# Altium footprint library YAGEO-AT-Series.PcbLib: 5 footprints
Each footprint in its own frame and in the unit in brackets; x right, y up, seen from the top. Pads: shape width x height; smd on the part's side, far side on the other; paste and mask are expansions set on the pad; w line width, h text height; cw(c..) or ccw(c..) is an arc to the next point about the centre after c.
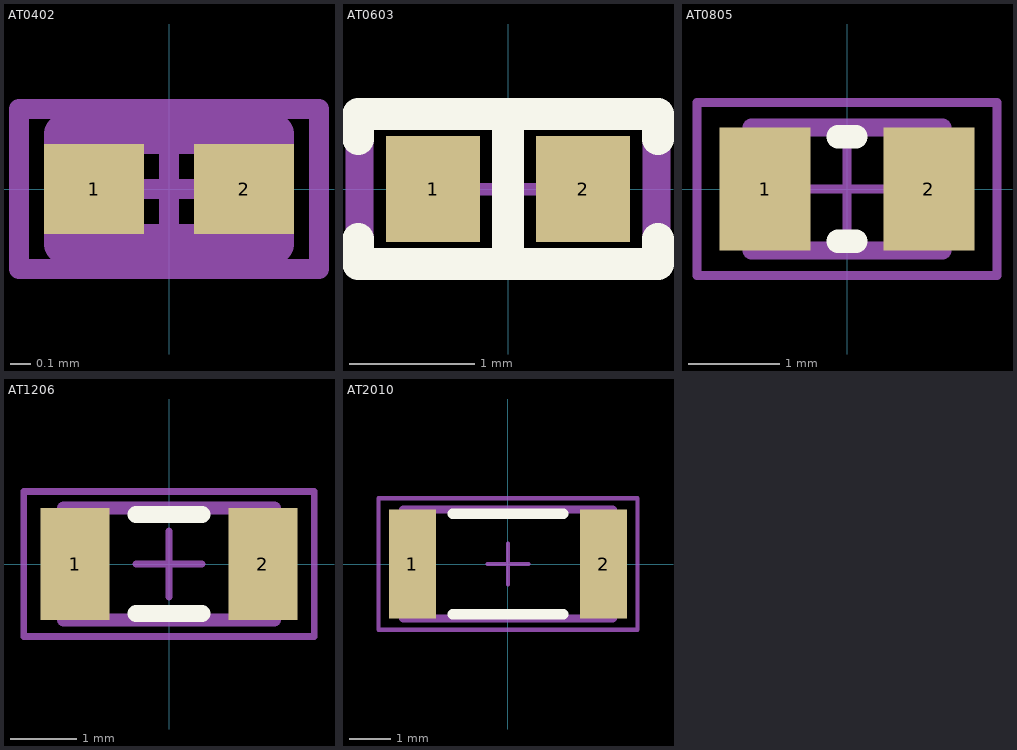
[diagram p0: the footprints below, top view; thin cyan lines are the x and y axes]

## AT0402 [mm] "Chip Resistor, 2-Leads, Body 1.00x0.50mm, IPC High Density"
height 0.4
pads (2):
  rect 0.5x0.45 smd: 1(-0.375,0) 2(0.375,0)
Top Designator:
  text ".Designator" at -0.6,0.7 h0.6
Top Assembly:
  lines w0.2: -0.525,-0.275 -0.525,0.275 0.525,0.275 0.525,-0.275 -0.525,-0.275
Top Courtyard:
  lines w0.1: -0.275,0 0.275,0 ; 0,-0.275 0,0.275 ; -0.75,-0.4 -0.75,0.4 0.75,0.4 0.75,-0.4 -0.75,-0.4
3D body: height 0.4, standoff 0, extent -0.275,-0.275 0.275,0.275
3D body: height 0.4, standoff 0, extent -0.525,-0.275 -0.275,0.275
3D body: height 0.4, standoff 0, extent 0.275,-0.275 0.525,0.275

## AT0603 [mm] "Chip Resistor, 2-Leads, Body 1.60x0.80mm, IPC High Density"
height 0.45
pads (2):
  rect 0.75x0.85 smd: 1(-0.6,0) 2(0.6,0)
Top Overlay:
  lines w0.254: -1.2,-0.4 -1.2,-0.6 1.2,-0.6 1.2,-0.4 ; -1.2,0.4 -1.2,0.6 1.2,0.6 1.2,0.4 ; 0,-0.6 0,0.6
Top Designator:
  text ".Designator" at -1.324,1.017 h1
Top Assembly:
  lines w0.2: -1.2,-0.6 -1.2,0.6 1.2,0.6 1.2,-0.6 -1.2,-0.6
Top Courtyard:
  lines w0.05: -1.1,-0.6 -1.1,0.6 1.1,0.6 1.1,-0.6 -1.1,-0.6
  lines w0.1: -0.475,0 0.475,0 ; 0,-0.475 0,0.475
3D body "0603 resistor.STEP": height 0.45, standoff 0, extent -0.8,-0.4 0.8,0.4

## AT0805 [mm] "Chip Resistor, 2-Leads, Body 2,00x1,25mm, IPC Medium Density"
height 0.6
pads (2):
  rect 1x1.35 smd: 1(-0.9,0) 2(0.9,0)
Top Overlay:
  lines w0.254: -0.1,-0.575 0.1,-0.575 ; -0.1,0.575 0.1,0.575
Top Designator:
  text ".Designator" at -1.515,1.221 h1.4
Top Assembly:
  lines w0.2: -1.05,-0.675 -1.05,0.675 1.05,0.675 1.05,-0.675 -1.05,-0.675
Top Courtyard:
  lines w0.1: -0.5,0 0.5,0 ; 0,-0.5 0,0.5 ; -1.65,-0.95 -1.65,0.95 1.65,0.95 1.65,-0.95 -1.65,-0.95
3D body: height 0.6, standoff 0, extent -0.7,-0.675 0.7,0.675
3D body: height 0.6, standoff 0, extent -1.05,-0.675 -0.7,0.675
3D body: height 0.6, standoff 0, extent 0.7,-0.675 1.05,0.675

## AT1206 [mm] "Chip Resistor, 2-Leads, Body 3,10x1,60mm, IPC Medium Density"
height 0.65
pads (2):
  rect 1.05x1.7 smd: 1(-1.425,0) 2(1.425,0)
Top Overlay:
  lines w0.254: -0.5,-0.75 0.5,-0.75 ; -0.5,0.75 0.5,0.75
Top Designator:
  text ".Designator" at -1.394,1.392 h1.4
Top Assembly:
  lines w0.2: -1.6,-0.85 -1.6,0.85 1.6,0.85 1.6,-0.85 -1.6,-0.85
Top Courtyard:
  lines w0.1: -0.5,0 0.5,0 ; 0,-0.5 0,0.5 ; -2.2,-1.1 -2.2,1.1 2.2,1.1 2.2,-1.1 -2.2,-1.1
3D body: height 0.65, standoff 0, extent -1.2,-0.85 1.2,0.85
3D body: height 0.65, standoff 0, extent -1.6,-0.85 -1.2,0.85
3D body: height 0.65, standoff 0, extent 1.2,-0.85 1.6,0.85

## AT2010 [mm] "Chip Resistor, 2-Leads, Body 5,00x2,50mm, IPC Medium Density"
height 0.65
pads (2):
  rect 1.15x2.65 smd: 1(-2.325,0) 2(2.325,0)
Top Overlay:
  lines w0.254: -1.35,-1.225 1.35,-1.225 ; -1.35,1.225 1.35,1.225
Top Designator:
  text ".Designator" at -1.394,-0.108 h1.4
Top Assembly:
  lines w0.2: -2.55,-1.325 -2.55,1.325 2.55,1.325 2.55,-1.325 -2.55,-1.325
Top Courtyard:
  lines w0.1: -0.5,0 0.5,0 ; 0,-0.5 0,0.5 ; -3.15,-1.6 -3.15,1.6 3.15,1.6 3.15,-1.6 -3.15,-1.6
3D body: height 0.65, standoff 0, extent -2.05,-1.325 2.05,1.325
3D body: height 0.65, standoff 0, extent -2.55,-1.325 -2.05,1.325
3D body: height 0.65, standoff 0, extent 2.05,-1.325 2.55,1.325